# EAGLE library part AMPHENOL_1013279X_20PIN (library jack_connector)
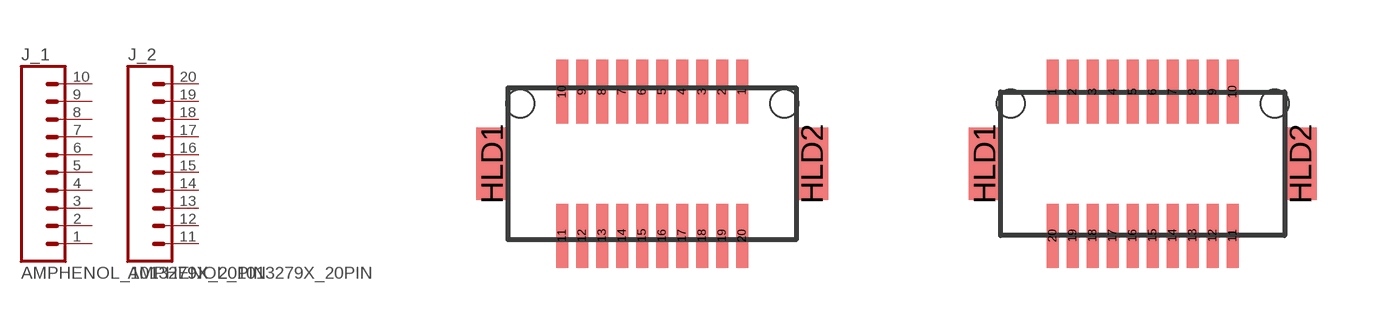
[diagram p3: symbol with the pads of AMPHENOL_10132797-02X100LF; footprints AMPHENOL_10132797-02X100LF, AMPHENOL_10132798-02X100LF]

Designator prefix J; gates _1=M10 _2=M10

## AMPHENOL_1013279X_20PIN_FEMALE  [AMPHENOL_10132797-02X100LF]
1  _1:1  pas
2  _1:2  pas
3  _1:3  pas
4  _1:4  pas
5  _1:5  pas
6  _1:6  pas
7  _1:7  pas
8  _1:8  pas
9  _1:9  pas
10  _1:10  pas
11  _2:1  pas
12  _2:2  pas
13  _2:3  pas
14  _2:4  pas
15  _2:5  pas
16  _2:6  pas
17  _2:7  pas
18  _2:8  pas
19  _2:9  pas
20  _2:10  pas

## AMPHENOL_1013279X_20PIN_MALE  [AMPHENOL_10132798-02X100LF]
Pads as for AMPHENOL_10132797-02X100LF

## Footprint AMPHENOL_10132797-02X100LF (pad centres in mm)
Female/Plug side 20 pin two row SMD mezzamine connector https://cdn.amphenol-icc.com/media/wysiwyg/files/drawing/10132797.pdf
smd 0.3 x 1.6: 1 2.25,1.8; 2 1.75,1.8; 3 1.25,1.8; 4 0.75,1.8; 5 0.25,1.8; 6 -0.25,1.8; 7 -0.75,1.8; 8 -1.25,1.8; 9 -1.75,1.8; 10 -2.25,1.8; 11 -2.25,-1.8; 12 -1.75,-1.8; 13 -1.25,-1.8; 14 -0.75,-1.8; 15 -0.25,-1.8; 16 0.25,-1.8; 17 0.75,-1.8; 18 1.25,-1.8; 19 1.75,-1.8; 20 2.25,-1.8
smd 0.8 x 1.8: HLD1 -4,0; HLD2 4,0
hole 0.7 at -3.3,1.5
hole 0.7 at 3.3,1.5

## Footprint AMPHENOL_10132798-02X100LF (pad centres in mm)
Male/Receptical side 20 pin two row SMD mezzamine connector https://cdn.amphenol-icc.com/media/wysiwyg/files/drawing/10132797.pdf
smd 0.3 x 1.6: 1 -2.25,1.8; 2 -1.75,1.8; 3 -1.25,1.8; 4 -0.75,1.8; 5 -0.25,1.8; 6 0.25,1.8; 7 0.75,1.8; 8 1.25,1.8; 9 1.75,1.8; 10 2.25,1.8; 11 2.25,-1.8; 12 1.75,-1.8; 13 1.25,-1.8; 14 0.75,-1.8; 15 0.25,-1.8; 16 -0.25,-1.8; 17 -0.75,-1.8; 18 -1.25,-1.8; 19 -1.75,-1.8; 20 -2.25,-1.8
smd 0.8 x 1.8: HLD1 -3.95,0; HLD2 3.95,0
hole 0.7 at -3.3,1.5
hole 0.7 at 3.3,1.5